# Altium footprint library Passives.PcbLib: 58 footprints (part 1 of 4)
Each footprint in its own frame and in the unit in brackets; x right, y up, seen from the top. Pads: shape width x height; smd on the part's side, far side on the other; paste and mask are expansions set on the pad; w line width, h text height; cw(c..) or ccw(c..) is an arc to the next point about the centre after c.
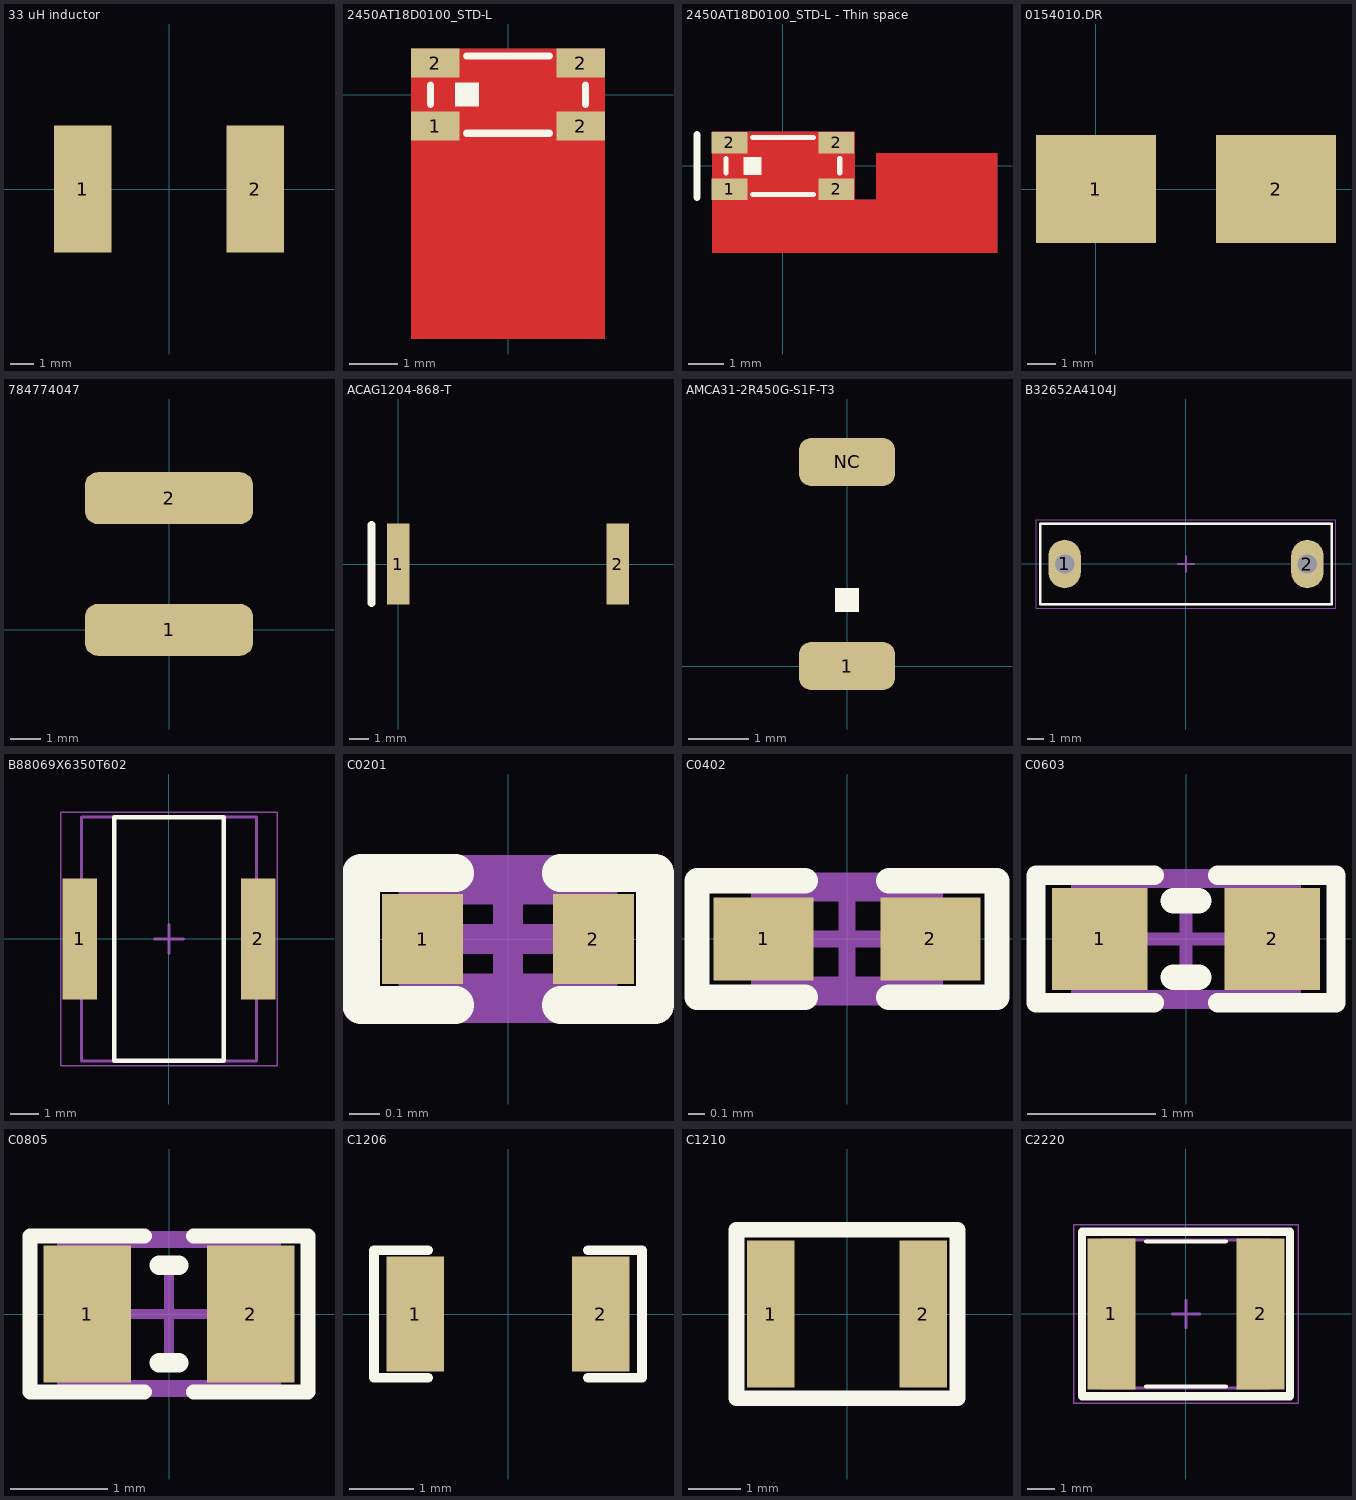
[diagram p0: the footprints below, top view; thin cyan lines are the x and y axes]

## 33 uH inductor [mil] "L = 33 ï¿½H  DCR = 144 mO  IDC = 3.2 A"
pads (2):
  rect 95x210 smd: 1(-142.5,0) 2(142.5,0)
3D body "IHLP3232DZ.STEP": height 152.5, standoff -1, extent -169.29,-161.29 169.31,161.31

## 2450AT18D0100_STD-L [mm]
pads (4):
  rect 1x0.6 smd mask+0.051: 1(-1.5,-0.65) 2(-1.5,0.65) 2(1.5,-0.65) 2(1.5,0.65)
Top Layer:
  pour cut-out: -2,-5.05 -2,0.95 2,0.95 2,-5.05
Bottom Layer:
  pour cut-out: -2,-5.05 -2,0.95 2,0.95 2,-5.05
Top Overlay:
  rectangle: -1.1,-0.25 -0.6,0.25
  lines w0.15: -1.6,-0.2 -1.6,0.2 ; -0.85,-0.8 0.85,-0.8 ; -0.85,0.8 0.85,0.8 ; 1.6,-0.2 1.6,0.2
Mechanical 7:
  lines w0.1: -1.6,-0.5 -1.1,-0.5 -1.1,-0.8 ; -1.6,0.5 -1.1,0.5 -1.1,0.8 ; 1.1,-0.8 1.1,-0.5 1.6,-0.5 ; 1.1,0.8 1.1,0.5 1.6,0.5 ; -1.6,-0.8 -1.6,0.8 1.6,0.8 1.6,-0.8 -1.6,-0.8 ; -1.106,-0.247 -0.607,-0.247 -0.607,0.252 -1.106,0.252 -1.106,-0.247
  text ".Designator" at -0.4,-0.2 h0.38
3D body: height 1.2, standoff 0.01, extent -1.099,-0.25 -0.6,0.25
3D body: height 1.2, standoff 0, extent -1.605,-0.805 -1.105,-0.505
3D body: height 1.2, standoff 0, extent -1.6,-0.8 1.6,0.8
3D body: height 1.2, standoff 0, extent 1.105,0.505 1.605,0.805
3D body: height 1.2, standoff 0, extent 1.105,-0.805 1.605,-0.505
3D body: height 1.2, standoff 0, extent -1.605,0.505 -1.105,0.805

## 2450AT18D0100_STD-L - Thin space [mm] "2.45GHz antenna for thin spaces"
pads (4):
  rect 1x0.6 smd mask+0.051: 1(-1.5,-0.65) 2(-1.5,0.65) 2(1.5,-0.65) 2(1.5,0.65)
Top Layer:
  pour cut-out: -1.982,-2.445 -1.982,0.955 2.018,0.955 2.018,-2.445
  pour cut-out: 2.618,-2.445 2.618,0.355 6.018,0.355 6.018,-2.445
  pour cut-out: -1.982,-2.445 -1.982,-0.945 6.018,-0.945 6.018,-2.445
Bottom Layer:
  pour cut-out: -1.982,-2.445 -1.982,0.955 2.018,0.955 2.018,-2.445
  pour cut-out: -1.982,-2.445 -1.982,-0.945 6.018,-0.945 6.018,-2.445
  pour cut-out: 2.618,-2.445 2.618,0.355 6.018,0.355 6.018,-2.445
Top Overlay:
  rectangle: -1.1,-0.25 -0.6,0.25
  lines w0.15: -1.6,-0.2 -1.6,0.2 ; -0.85,-0.8 0.85,-0.8 ; -0.85,0.8 0.85,0.8 ; 1.6,-0.2 1.6,0.2
  lines w0.2: -2.413,-0.889 -2.413,0.889
Mechanical 7:
  lines w0.1: -1.6,-0.5 -1.1,-0.5 -1.1,-0.8 ; -1.6,0.5 -1.1,0.5 -1.1,0.8 ; 1.1,-0.8 1.1,-0.5 1.6,-0.5 ; 1.1,0.8 1.1,0.5 1.6,0.5 ; -1.6,-0.8 1.6,-0.8 1.6,0.8 -1.6,0.8 -1.6,-0.8 ; -1.106,-0.247 -1.106,0.252 -0.607,0.252 -0.607,-0.247 -1.106,-0.247
  text ".Designator" at -0.4,-0.2 h0.38
3D body: height 1.2, standoff 0, extent -1.605,0.505 -1.105,0.805
3D body: height 1.2, standoff 0, extent 1.105,-0.805 1.605,-0.505
3D body: height 1.2, standoff 0, extent 1.105,0.505 1.605,0.805
3D body: height 1.2, standoff 0, extent -1.6,-0.8 1.6,0.8
3D body: height 1.2, standoff 0, extent -1.605,-0.805 -1.105,-0.505
3D body: height 1.2, standoff 0.01, extent -1.099,-0.25 -0.6,0.25

## 0154010.DR [mm] "10A Fuse"
pads (2):
  rect 4.24x3.81 smd: 1(0,0) 2(6.37,0)
3D body "0154010.DR.STEP": height 3.81, standoff 0, extent -1.665,-2.515 8.065,2.515

## 784774047 [mm] "4.7 µH Inductor 3A"
pads (2):
  rrect50% 5.5x1.7 smd: 1(0,0) 2(0,4.3)
3D body "WE-PD2A_5848_PD2A (rev1).stp": height 4.5, standoff 0, extent -2.889,-0.4 2.899,4.8

## ACAG1204-868-T [mm] "SMD Chip Antenna LORA"
pads (2):
  rect 1.15x4.2 smd: 1(0,0) 2(11.45,0)
Top Overlay:
  lines w0.4: -1.397,-2.032 -1.397,2.032
3D body "ACAG1204-868-T.STEP": height 1.6, standoff 0, extent -0.224,-1.959 11.776,2.041

## AMCA31-2R450G-S1F-T3 [mm] "Chip antenna 2.45Ghz"
pads (2):
  rrect50% 1.6x0.8 smd: 1(0,0) NC(0,3.4)
Top Overlay:
  rectangle: -0.2,0.9 0.2,1.3
3D body "AMCA31-2R450G-S1F-T3--3DModel-STEP-56544.STEP": height 1.4, standoff 0, extent -0.8,0.1 0.8,3.3

## B32652A4104J [mm]
pads (2):
  oval 2x3 hole 1.2: 1(-7.5,0) 2(7.5,0)
Top Overlay:
  lines w0.15: -9,1 -9,2.5 9,2.5 9,-1.016 ; -9,1.016 -9,-2.5 9,-2.5 9,-1
Mechanical 13:
  lines w0.1: -9,-2.5 9,-2.5 9,2.5 -9,2.5 -9,-2.5
Mechanical 15:
  lines w0.05: -9.271,-2.75 9.271,-2.75 9.271,2.75 -9.271,2.75 -9.271,-2.75
  lines w0.1: -0.5,0 0.5,0 ; 0,-0.5 0,0.5
3D body: height 11, standoff 0, extent -9,-2.5 9,2.5

## B88069X6350T602 [mm]
pads (2):
  rect 1.2x4.2 smd: 1(-3.1,0) 2(3.1,0)
Top Overlay:
  lines w0.15: -1.9,-4.225 1.9,-4.225 1.9,4.225 -1.9,4.225 -1.9,-4.225
Mechanical 15:
  lines w0.05: -3.75,-4.4 -3.75,4.4 3.75,4.4 3.75,-4.4 -3.75,-4.4
  lines w0.1: -0.5,0 0.5,0 ; 0,-0.5 0,0.5
Mechanical 17:
  lines w0.1: -3.035,-4.225 -3.035,4.225 3.035,4.225 3.035,-4.225 -3.035,-4.225
  text ".Designator" at -2.525,-1.1 h0.8
3D body: height 8.45, standoff 0, extent -3.035,-4.225 -2.435,4.225
3D body: height 8.43, standoff 0.04, extent -2.435,-4.195 2.435,4.195
3D body: height 8.45, standoff 0, extent 2.435,-4.225 3.035,4.225

## C0201 [mm]
pads (2):
  rect 0.27x0.3 smd: 1(-0.285,0) 2(0.285,0)
Top Overlay:
  lines w0.125: -0.175,-0.22 -0.49,-0.22 -0.49,0.22 -0.175,0.22 ; 0.175,-0.22 0.49,-0.22 0.49,0.22 0.175,0.22
Mechanical 7:
  lines w0.1: -0.315,-0.165 0.315,-0.165 0.315,0.165 -0.315,0.165 -0.315,-0.165
  text ".Designator" at -0.508,-0.127 h0.3
Mechanical 15:
  lines w0.1: -0.165,0 0.165,0 ; 0,-0.165 0,0.165 ; -0.5,-0.23 0.5,-0.23 0.5,0.23 -0.5,0.23 -0.5,-0.23
3D body "User Library-0201(0603M) Cap.step": height 0.3, standoff -0.01, extent -0.305,-0.152 0.305,0.153

## C0402 [mm]
pads (2):
  rect 0.6x0.5 smd: 1(-0.5,0) 2(0.5,0)
Top Overlay:
  lines w0.152: -0.25,-0.35 -0.9,-0.35 -0.9,0.35 -0.25,0.35 ; 0.25,-0.35 0.9,-0.35 0.9,0.35 0.25,0.35
Mechanical 7:
  lines w0.1: -0.525,-0.275 0.525,-0.275 0.525,0.275 -0.525,0.275 -0.525,-0.275
  text ".Designator" at -0.508,-0.127 h0.3
Mechanical 15:
  lines w0.1: -0.275,0 0.275,0 ; 0,-0.275 0,0.275 ; -0.9,-0.35 -0.9,0.35 0.9,0.35 0.9,-0.35 -0.9,-0.35
3D body "User Library-0402(1005M) Cap.step": height 0.5, standoff -0.01, extent -0.508,-0.254 0.508,0.254

## C0603 [mm]
pads (2):
  rect 0.75x0.8 smd: 1(-0.675,0) 2(0.675,0)
Top Overlay:
  lines w0.152: -0.25,-0.5 -1.175,-0.5 -1.175,0.5 -0.25,0.5 ; 0.25,-0.5 1.175,-0.5 1.175,0.5 0.25,0.5
  lines w0.2: -0.1,-0.3 0.1,-0.3 ; -0.1,0.3 0.1,0.3
Mechanical 7:
  lines w0.1: -0.85,-0.45 0.85,-0.45 0.85,0.45 -0.85,0.45 -0.85,-0.45
  text ".Designator" at -0.508,-0.127 h0.3
Mechanical 15:
  lines w0.1: -0.45,0 0.45,0 ; 0,-0.45 0,0.45 ; -1.175,-0.5 -1.175,0.5 1.175,0.5 1.175,-0.5 -1.175,-0.5
3D body "User Library-Chip Capacitor 0603.step": height 0.8, standoff 0, extent -0.8,-0.435 0.8,0.425

## C0805 [mm]
pads (2):
  rect 0.9x1.4 smd: 1(-0.838,0) 2(0.838,0)
Top Overlay:
  lines w0.152: -0.25,-0.8 -1.425,-0.8 -1.425,0.8 -0.25,0.8 ; 0.25,-0.8 1.425,-0.8 1.425,0.8 0.25,0.8
  lines w0.2: -0.1,-0.5 0.1,-0.5 ; -0.1,0.5 0.1,0.5
Mechanical 7:
  lines w0.1: -1.1,-0.725 -1.1,0.725 1.1,0.725 1.1,-0.725 -1.1,-0.725
  text ".Designator" at -0.675,-0.15 h0.38
Mechanical 15:
  lines w0.1: -0.5,0 0.5,0 ; 0,-0.5 0,0.5 ; -1.425,-0.8 -1.425,0.8 1.425,0.8 1.425,-0.8 -1.425,-0.8
3D body "SW3dPS-0805 SMD Capacitor.STEP": height 0.77, standoff -0.01, extent -1,-0.625 1,0.625

## C1206 [mm]
pads (2):
  rect 0.9x1.8 smd: 1(-1.45,0) 2(1.45,0)
Top Overlay:
  lines w0.152: -1.25,-1 -2.1,-1 -2.1,1 -1.25,1 ; 1.25,-1 2.1,-1 2.1,1 1.25,1
Mechanical 7:
  text ".Designator" at -0.508,-0.127 h0.3
3D body "C1206_090.step": height 0.9, standoff 0, extent -1.55,-0.803 1.65,0.797

## C1210 [mm]
pads (2):
  rect 0.9x2.8 smd: 1(-1.45,0) 2(1.45,0)
Top Overlay:
  lines w0.3: -2.1,-1.6 -2.1,1.6 2.1,1.6 2.1,-1.6 -2.1,-1.6
Mechanical 7:
  text ".Designator" at -0.508,-0.127 h0.3
3D body "C1210_115.step": height 1.15, standoff 0, extent -1.55,-1.253 1.65,1.247

## C2220 [mm]
pads (2):
  rect 1.75x5.5 smd: 1(-2.725,0) 2(2.725,0)
Top Overlay:
  lines w0.15: -1.45,-2.65 1.45,-2.65 ; -1.45,2.65 1.45,2.65
  lines w0.3: -3.8,-3 -3.8,3 3.8,3 3.8,-3 -3.8,-3
Mechanical 7:
  text ".Designator" at -0.508,-0.127 h0.3
Mechanical 13:
  lines w0.1: -3.05,-2.7 3.05,-2.7 3.05,2.7 -3.05,2.7 -3.05,-2.7
Mechanical 15:
  lines w0.05: -4.1,-3.25 4.1,-3.25 4.1,3.25 -4.1,3.25 -4.1,-3.25
  lines w0.1: -0.5,0 0.5,0 ; 0,-0.5 0,0.5
Mechanical 17:
  lines w0.05: -4.1,-3.25 -4.1,3.25 4.1,3.25 4.1,-3.25 -4.1,-3.25
3D body: height 2.55, standoff 0, extent -2.45,-2.7 2.45,2.7
3D body: height 2.55, standoff 0, extent 2.45,-2.7 3.05,2.7
3D body: height 2.55, standoff 0, extent -3.05,-2.7 -2.45,2.7